# Altium footprint library plugs.PcbLib: 3 footprints
Each footprint in its own frame and in the unit in brackets; x right, y up, seen from the top. Pads: shape width x height; smd on the part's side, far side on the other; paste and mask are expansions set on the pad; w line width, h text height; cw(c..) or ccw(c..) is an arc to the next point about the centre after c.
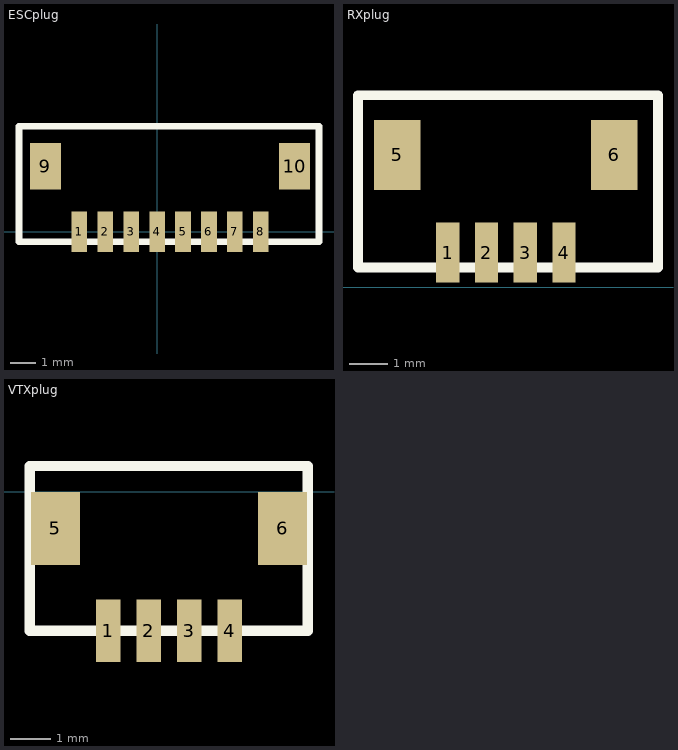
[diagram p0: the footprints below, top view; thin cyan lines are the x and y axes]

## ESCplug [mm]
pads (10):
  rect 0.6x1.55 smd: 1(-3.016,0) 2(-2.016,0) 3(-1.016,0) 4(-0.016,0) 5(0.984,0) 6(1.984,0) 7(2.984,0) 8(3.984,0)
  rect 1.2x1.8 smd: 9(-4.316,2.525) 10(5.284,2.525)
Top Overlay:
  lines w0.254: -5.334,-0.381 6.223,-0.381 6.223,4.064 -5.334,4.064 -5.334,-0.381
3D body "JST-SH_8pin.STEP": height 2.96, standoff 0, extent -4.488,-0.748 5.512,4.202

## RXplug [mm]
pads (6):
  rect 0.6x1.55 smd: 1(-13.938,0.889) 2(-12.938,0.889) 3(-11.938,0.889) 4(-10.938,0.889)
  rect 1.2x1.8 smd: 5(-15.238,3.414) 6(-9.638,3.414)
Top Overlay:
  lines w0.254: -16.256,0.508 -8.509,0.508 -8.509,4.953 -16.256,4.953 -16.256,0.508

## VTXplug [mm]
pads (6):
  rect 0.6x1.55 smd: 1(-6.699,-3.429) 2(-5.699,-3.429) 3(-4.699,-3.429) 4(-3.699,-3.429)
  rect 1.2x1.8 smd: 5(-7.999,-0.904) 6(-2.399,-0.904)
Top Overlay:
  lines w0.254: -8.636,-3.429 -1.778,-3.429 -1.778,0.635 -8.636,0.635 -8.636,-3.429
3D body "JST-SH_4pin.STEP": height 2.96, standoff 0, extent -8.207,-4.188 -2.207,0.762